# Altium schematic symbol library Capacitor.SchLib: 2 symbols
Pins are listed as number, name and electrical type; pins without a type are passive.

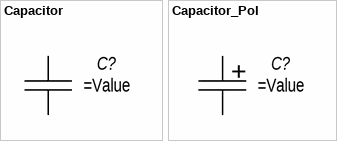
[diagram p0: symbols Capacitor to Capacitor_Pol]

## Capacitor
designator C?  (value not drawn)
Manufacturer: *; HelpURL: *; Value: =Value
footprint CAP0603RS (0603 Capacitor footprint)
footprint CAP0603WS (0603 Capacitor footprint)
footprint CAP0805RS (0805 Capacitor footprint)
footprint CAP0805WS (0805 Capacitor footprint)
pins: 1, 2
2 alternate drawings of the same symbol

## Capacitor_Pol
designator C?  (value not drawn)
Manufacturer: *; HelpURL: *; Value: =Value
footprint Type-C (6032-28 (Type-C) Package, Tantalum Capacitor)
pins: 1, 2
1 alternate drawing of the same symbol
text: +